# Altium schematic symbol library FTS-111-01-F-D.SchLib: 2 symbols
Pins are listed as number, name and electrical type; pins without a type are passive.

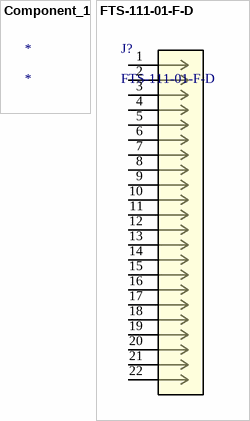
[diagram p0: symbols Component_1 to FTS-111-01-F-D]

## Component_1
designator *

## FTS-111-01-F-D
designator J?
No Description Available; Mfr_Name: Samtec Inc; Copyright: Copyright (C) 2022 Ultra Librarian. All rights reserved.; Manufacturer_Part_Number: FTS-111-01-F-D; RefDes: RefDes; Type: DEV
footprint CON22_2x11_TU_FTS_SAI
pins: 1, 2, 3, 4, 5, 6, 7, 8, 9, 10, 11, 12, 13, 14, 15, 16, 17, 18, 19, 20, 21, 22